# Altium schematic symbol library SCH - DRIVER - LED - TI TPS60231_RGT_16.SchLib: 1 symbol
Pins are listed as number, name and electrical type; pins without a type are passive.

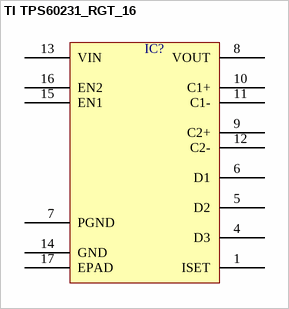
[diagram p0: symbol TI TPS60231_RGT_16]

## TI TPS60231_RGT_16
designator IC?  (value not drawn)
pins: 1 ISET, 4 D3, 5 D2, 6 D1, 7 PGND, 8 VOUT, 9 C2+, 10 C1+, 11 C1-, 12 C2-, 13 VIN, 14 GND, 15 EN1, 16 EN2, 17 EPAD